# Altium footprint library Other Components.PcbLib: 33 footprints (part 1 of 3)
Each footprint in its own frame and in the unit in brackets; x right, y up, seen from the top. Pads: shape width x height; smd on the part's side, far side on the other; paste and mask are expansions set on the pad; w line width, h text height; cw(c..) or ccw(c..) is an arc to the next point about the centre after c.
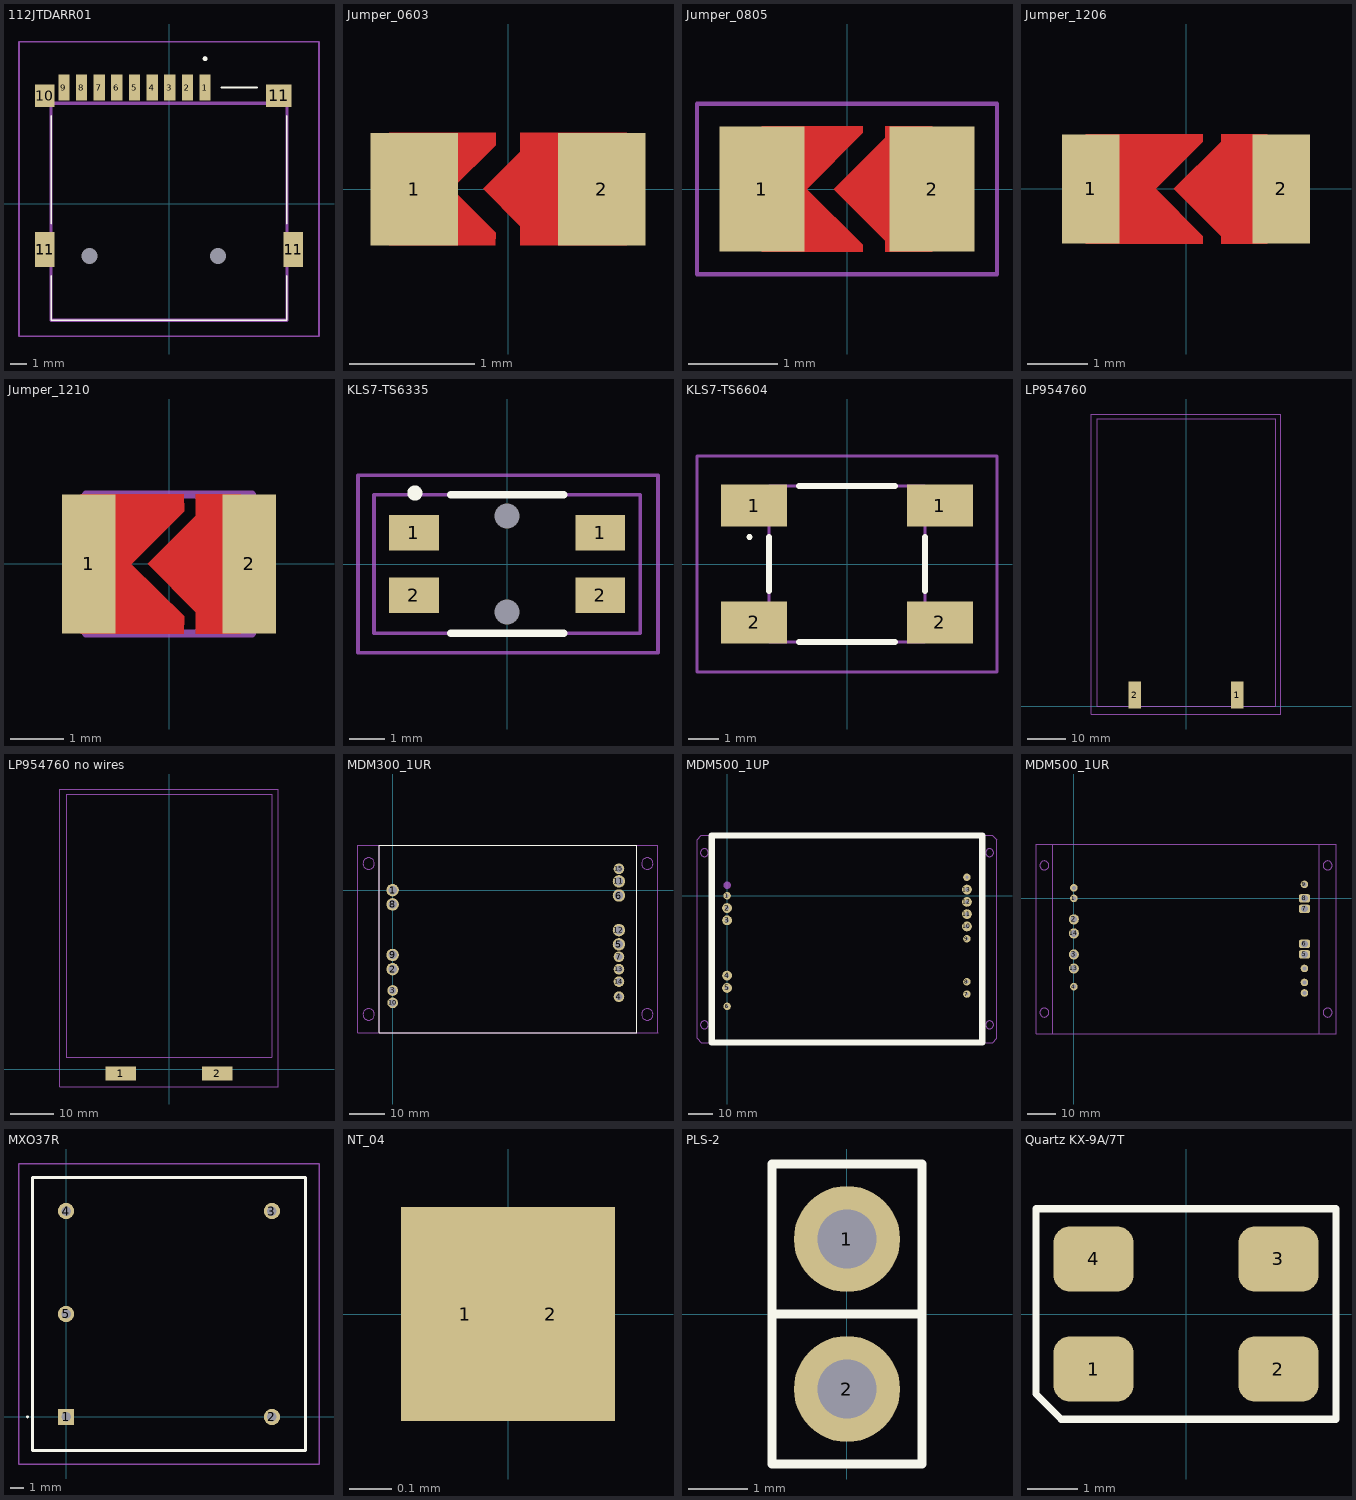
[diagram p0: the footprints below, top view; thin cyan lines are the x and y axes]

## 112JTDARR01 [mm]
pads (15):
  rect 0.7x1.6 smd: 1(2.25,7.25) 2(1.15,7.25) 3(0.05,7.25) 4(-1.05,7.25) 5(-2.15,7.25) 6(-3.25,7.25) 7(-4.35,7.25) 8(-5.45,7.25) 9(-6.55,7.25)
  rect 1.2x1.4 smd: 10(-7.75,6.75)
  rect 1.2x2.2 smd: 11(-7.75,-2.85) 11(7.75,-2.85)
  rect 1.6x1.4 smd: 11(6.85,6.75)
  round 0.5 hole 1 unplated: MH1(3.05,-3.25) MH2(-4.95,-3.25)
Top Overlay:
  lines w0.1: -7.35,-7.25 7.35,-7.25 ; -7.35,-7.25 7.35,-7.25 ; -7.35,-7.25 -7.35,-4.5 -7.35,-7.25 ; 7.35,-7.25 7.35,-4.5 7.35,-7.25 ; -7.35,-1.25 -7.35,5.5 -7.35,-1.25 ; 3.25,7.25 5.5,7.25 3.25,7.25 ; 7.35,-1.25 7.35,5.5 7.35,-1.25
  lines w0.2: 2.25,9 cw(c2.25,9.05) 2.25,9.1 ; 2.25,9 ccw(c2.25,9.05) 2.25,9.1 ; 2.25,9 cw(c2.25,9.05) 2.25,9.1
Top 3D Body:
  lines w0.2: -7.35,-7.25 7.35,-7.25 7.35,6.275 -7.35,6.275 -7.35,-7.25
Top Courtyard:
  lines w0.1: -9.35,-8.25 9.35,-8.25 9.35,10.1 -9.35,10.1 -9.35,-8.25
3D body "112J-TDAR-R01.stp": height 2.1, standoff -1.7, extent -8.23,-7.25 8.23,7.98

## Jumper_0603 [mm]
height 0.5
pads (2):
  rect 0.7x0.9 smd mask+0: 1(-0.75,0) 2(0.75,0)
Top Layer:
  region: 0.95,-0.45 0.1,-0.45 0.1,-0.3 -0.2,0 0.1,0.3 0.1,0.45 0.95,0.45
  region: -0.099,0.45 -0.099,0.351 -0.45,0 -0.1,-0.35 -0.1,-0.45 -0.95,-0.45 -0.95,0.45
Top Solder:
  region: 0.8,0.45 0.8,-0.45 -0.95,-0.45 -0.95,0.45
3D body "SMDR_0603.STEP": height 0.5, standoff 0, extent -0.8,-0.4 0.8,0.4

## Jumper_0805 [mm]
pads (2):
  rect 0.95x1.4 smd mask+0: 1(-0.95,0) 2(0.95,0)
Top Layer:
  region: 0.176,0.7 0.176,0.626 -0.45,0 0.175,-0.625 0.175,-0.7 -0.95,-0.7 -0.95,0.7
  region: 0.95,-0.7 0.5,-0.7 0.426,-0.7 0.426,-0.575 -0.149,0 0.426,0.575 0.426,0.7 0.5,0.7 0.95,0.7
Top Solder:
  region: 0.95,0.7 0.95,-0.7 -0.95,-0.7 -0.95,0.7
Top Courtyard:
  lines w0.05: -1.675,-0.95 1.675,-0.95 1.675,0.95 -1.675,0.95 -1.675,-0.95
3D body "RC0805FR-076K2L.stp": height 0.6, standoff 0, extent -1,-0.625 1,0.625

## Jumper_1206 [mm]
height 0.6
pads (2):
  rect 0.95x1.8 smd mask+0: 1(-1.575,0) 2(1.575,0)
Top Layer:
  region: -0.938,0.9 0.28,0.9 0.28,0.78 -0.5,0 0.28,-0.78 0.28,-0.9 -0.938,-0.9 -1.65,-0.9 -1.65,0.9
  region: 1.337,-0.9 0.7,-0.9 0.58,-0.9 0.58,-0.78 -0.2,0 0.58,0.78 0.58,0.9 0.7,0.9 1.337,0.9
Top Solder:
  region: 1.68,0.9 1.68,-0.9 -1.6,-0.9 -1.6,0.9
3D body "SMDR_1206.STEP": height 0.56, standoff 0, extent -1.6,-0.8 1.6,0.8

## Jumper_1210 [mm]
height 0.6
pads (2):
  rect 1x2.6 smd mask+0: 1(-1.5,0) 2(1.5,0)
Top Layer:
  region: -1.65,1.3 0.28,1.3 0.28,0.98 -0.7,0 0.28,-0.98 0.28,-1.3 -1.65,-1.3
  region: 1.337,-1.3 0.5,-1.3 0.5,-0.9 -0.4,0 0.5,0.9 0.5,1.3 1.337,1.3
Top Solder:
  region: 1.68,1.3 1.68,-1.3 -1.6,-1.3 -1.6,1.3
Top Designator:
  text ".Designator" at -7.618,-0.508 h1.52
Top 3D Body:
  lines w0.15: -1.05,-1.3 -1.05,1.3 ; 1.05,-1.3 1.05,1.3 ; -1.55,-1.3 1.55,-1.3 1.55,1.3 -1.55,1.3 -1.55,-1.3
3D body "SMDR_1210.STEP": height 0.56, standoff 0, extent -1.6,-1.25 1.6,1.25

## KLS7-TS6335 [mm]
pads (6):
  round 0 hole 0.7: 0(0,-1.35) 0(0,1.35)
  rect 1.4x1 smd: 1(-2.625,0.875) 1(2.625,0.875) 2(-2.625,-0.875) 2(2.625,-0.875)
Top Overlay:
  lines w0.2: -1.6,-1.95 1.6,-1.95 ; -1.6,1.95 1.6,1.95
  lines w0.254: -2.515,2.012 ccw(c-2.6,2) -2.515,2
Top 3D Body:
  lines w0.1: -3.75,-1.95 3.75,-1.95 3.75,1.95 -3.75,1.95 -3.75,-1.95
Top Courtyard:
  lines w0.1: -4.2,-2.5 4.25,-2.5 4.25,2.5 -4.2,2.5 -4.2,-2.5
3D body: height 0.1, standoff 0, extent -3.125,0.6 0,1.15
3D body: height 1.55, standoff 0.1, extent -2.375,-1.75 2.375,1.75
3D body: height 0.1, standoff 0, extent 0,0.6 3.125,1.15
3D body: height 0.1, standoff 0, extent -3.125,-1.15 0,-0.6
3D body: height 0.1, standoff 0, extent 0,-1.15 3.125,-0.6
3D body: height 1.55, standoff 0.25, extent -1.35,-2.75 1.35,0

## KLS7-TS6604 [mm]
pads (4):
  rect 2.2x1.4 smd: 1(-3.1,1.95) 1(3.1,1.95) 2(-3.1,-1.95) 2(3.1,-1.95)
Top Overlay:
  lines w0.1: -3.3,0.9 cw(c-3.25,0.9) -3.2,0.9 cw(c-3.25,0.9) -3.3,0.9
  lines w0.2: -2.6,-0.9 -2.6,0.9 ; -1.6,-2.6 1.6,-2.6 ; -1.6,2.6 1.6,2.6 ; 2.6,-0.9 2.6,0.9
Top 3D Body:
  lines w0.1: -2.6,-2.6 -2.6,2.6 2.6,2.6 2.6,-2.6 -2.6,-2.6
Top Courtyard:
  lines w0.1: -5,-3.6 -5,3.6 5,3.6 5,-3.6 -5,-3.6
3D body "KLS7-TS6611.stp": height 1.6, standoff 0, extent -3.89,-2.6 3.89,2.6
3D body: height 5, standoff 0, extent -1.7,-1.696 1.7,1.697
3D body: height 3.5, standoff 0.01, extent -3,-3 3,3

## LP954760 [mm]
pads (2):
  rect 3.2x7 smd: 1(13.5,3) 2(-13.5,3)
Top 3D Body:
  lines w0.2: -23.5,0 -23.5,75.8 23.5,75.8 23.5,0 -23.5,0
Top Courtyard:
  lines w0.1: -25,-2 -25,77 25,77 25,-2 -25,-2
3D body "LP954760.STEP": height 9.8, standoff 0, extent -23.5,0 23.5,75.8

## LP954760 no wires [mm]
pads (2):
  rect 7x3.2 smd: 1(-11,-1) 2(11,-1)
Top 3D Body:
  lines w0.2: -23.5,2.718 -23.5,62.8 23.5,62.8 23.5,2.718 -23.5,2.718
Top Courtyard:
  lines w0.1: -25,-4 -25,64 25,64 25,-4 -25,-4
3D body "LP954760_nowires.STEP": height 9.6, standoff 0.1, extent -23.5,2.8 23.5,62.8

## MDM300_1UR [mm] "new.03.02.22"
pads (15):
  round 3.5 hole 2.4 mask+0: 1(0,0) 2(0,-22.25) 5(63.75,-15.25) 6(63.75,-1.5) 8(0,-4) 9(0,-18.25) 11(63.75,2.5) 12(63.75,-11.25)
  round 3 hole 1.9 mask+0: 3(0,-28.25) 4(63.75,-30) 7(63.75,-18.75) 10(0,-31.75) 13(63.75,-22.25) 14(63.75,-25.75) 15(63.75,6)
Top Overlay:
  lines w0.3: -3.749,-40.102 -3.749,12.59 68.747,12.59 68.747,-40.102 -3.749,-40.102
Top 3D Body:
  circle w0.15: c63.75,-15.25 r1
  circle w0.1: c0,-28.25 r0.75
  circle w0.1: c0,-31.75 r0.75
  circle w0.15: c0,-18.25 r1
  circle w0.1: c63.75,-22.25 r0.75
  circle w0.1: c63.75,-18.75 r0.75
  circle w0.1: c63.75,-30 r0.75
  circle w0.15: c0,0 r1
  circle w0.15: c63.75,-11.25 r1
  circle w0.1: c63.75,6 r0.75
  circle w0.15: c63.75,-1.5 r1
  circle w0.15: c63.75,2.5 r1
  circle w0.15: c0,-22.25 r1
  circle w0.15: c0,-4 r1
  circle w0.1: c63.75,-25.75 r0.75
  circle w0.1: c-6.75,7.5 r1.6
  circle w0.1: c-6.75,-35 r1.6
  circle w0.1: c71.75,7.5 r1.6
  circle w0.1: c71.75,-35 r1.6
  lines w0.15: -3.75,-40.1 -9.75,-40.1 -9.75,12.6 -3.75,12.6 ; -3.75,-40.1 -3.75,12.6 ; -3.75,-40.1 68.75,-40.1 ; -3.75,12.6 68.75,12.6 ; 68.75,-40.1 68.75,12.6 ; 68.75,-40.1 74.75,-40.1 74.75,12.6 68.75,12.6
  text "1" at 3.65,-0.175 h2
  text "8" at 3.75,-4.325 h2
  text "10" at 3.6,-32.35 h2
  text "3" at 3.525,-28.825 h2
  text "9" at 3.65,-18.25 h2
  text "2" at 3.6,-22.725 h2
  text "6" at 58.875,-2.125 h2
  text "11" at 58.875,2.125 h2
  text "15" at 59.125,5.625 h2
  text "5" at 59.375,-15.625 h2
  text "14" at 59.375,-26.375 h2
  text "4" at 59.625,-30.625 h2
  text "13" at 59.375,-22.875 h2
  text "7" at 59.625,-19.125 h2
  text "12" at 59.625,-11.875 h2
3D body "MDM300-Ð.stp": height 13, standoff -5.49, extent -9.75,-40 74.75,12.5

## MDM500_1UP [mm]
pads (14):
  round 3 hole 1.3: 1(0,0) 6(0,-45) 7(97.5,-40) 8(97.5,-35) 9(97.5,-17.5) 14(97.5,7.5)
  round 4 hole 1.7: 2(0,-5) 3(0,-10) 4(0,-32.5) 5(0,-37.5) 10(97.5,-12.5) 11(97.5,-7.5) 12(97.5,-2.5) 13(97.5,2.5)
Top Overlay:
  lines w2.5: -6.25,-59.7 103.75,-59.7 103.75,24.5 -6.25,24.5 -6.25,-59.7
Top 3D Body:
  circle w0.1: c-9.25,-52.5 r1.6
  circle w0.1: c-9.25,17.5 r1.6
  circle w0.1: c106.75,17.5 r1.6
  circle w0.1: c106.75,-52.5 r1.6
  circle w2: c0,4.25 r0.5
  lines w0.15: -12.2,22.8 -10.5,24.5 ; -6.25,-59.7 -6.25,24.5 ; 103.75,-59.7 103.75,24.5 ; 108,24.5 -10.5,24.5 ; 108.05,24.45 109.75,22.75 109.75,-58 108.05,-59.7 -10.55,-59.7 -12.25,-58 -12.25,22.75 -10.5,24.5
3D body "d1.35.stp": height 10, standoff -5, extent 96.625,1.631 98.375,3.369
3D body "d1.35.stp": height 10, standoff -5, extent 96.625,-3.369 98.375,-1.631
3D body "d1.35.stp": height 10, standoff -5, extent 96.625,-8.369 98.375,-6.631
3D body "d1.35.stp": height 10, standoff -5, extent 96.625,-13.369 98.375,-11.631
3D body "d1.0.stp": height 10, standoff -5, extent 96.84,-40.655 98.16,-39.345
3D body "d1.0.stp": height 10, standoff -5, extent 96.84,-35.655 98.16,-34.345
3D body "d1.0.stp": height 10, standoff -5, extent 96.84,-18.155 98.16,-16.845
3D body "d1.0.stp": height 10, standoff -5, extent 96.84,6.845 98.16,8.155
3D body: height 5, standoff 2, extent -5.1,-58.696 103.01,23.2
3D body "Case_7-U.stp": height 13.85, standoff 1, extent -12.25,-59.5 109.75,24.5
3D body "d1.35.stp": height 10, standoff -5, extent -0.875,-33.369 0.875,-31.631
3D body "d1.35.stp": height 10, standoff -5, extent -0.875,-38.369 0.875,-36.631
3D body "d1.35.stp": height 10, standoff -5, extent -0.875,-10.869 0.875,-9.131
3D body "d1.35.stp": height 10, standoff -5, extent -0.875,-5.869 0.875,-4.131
3D body "d1.0.stp": height 10, standoff -5, extent -0.66,-0.655 0.66,0.655
3D body "d1.0.stp": height 10, standoff -5, extent -0.66,-45.655 0.66,-44.345
3D body: height 14, standoff 8, extent -3,-3 3,3

## MDM500_1UR [mm] "new.03.02.22"
pads (15):
  round 2.7 hole 1.4: 1(0,0) 4(0,-31.5) 9(82.25,5) 10(82.25,-25) 11(82.25,-30) 12(82.25,-33.75) 15(0,3.75)
  round 3.6 hole 2.4: 2(0,-7.5) 3(0,-20) 13(0,-25) 14(0,-12.5)
  rrect50% 4x3 hole 2.4: 5(82.25,-20) 6(82.25,-16.25) 7(82.25,-3.75) 8(82.25,0)
Top 3D Body:
  circle w0.1: c-10.5,11.75 r1.6
  circle w0.1: c-10.5,-40.75 r1.6
  circle w0.1: c90.5,-40.75 r1.6
  circle w0.1: c90.5,11.75 r1.6
  lines w0.15: -7.5,-48.35 -7.5,19.35 ; 87.5,-48.35 87.5,19.35 ; -7.5,19.35 93.5,19.35 93.5,-48.35 -13.5,-48.35 -13.5,19.35 -7.5,19.35
  text "9" at 78,4.75 h2
  text "8" at 78,-0.25 h2
  text "7" at 78,-4.25 h2
  text "6" at 78.5,-16.75 h2
  text "5" at 78.5,-20.25 h2
  text "10" at 78.5,-25.75 h2
  text "11" at 78.5,-30.25 h2
  text "12" at 78.5,-34.25 h2
  text "15" at 2.75,3.5 h2
  text "1" at 3,-0.75 h2
  text "2" at 3,-8.25 h2
  text "14" at 3,-13.25 h2
  text "3" at 2.75,-20.25 h2
  text "13" at 2.75,-25.25 h2
  text "4" at 2.75,-31.75 h2
3D body "MDM500-Ð.stp": height 13, standoff -5.5, extent -13.5,-48.25 93.5,19.25

## MXO37R [mm]
pads (5):
  rect 1.2x1.2 hole 0.7: 1(0,0)
  round 1.2 hole 0.7: 2(15.24,0) 3(15.24,15.24) 4(0,15.24) 5(0,7.62)
Top Overlay:
  lines w0.1: -2.9,0 cw(c-2.85,0) -2.8,0 cw(c-2.85,0) -2.9,0
  lines w0.2: -2.48,-2.48 17.72,-2.48 17.72,17.72 -2.48,17.72 -2.48,-2.48
Top 3D Body:
  lines w0.1: -2.48,-2.48 17.72,-2.48 17.72,17.72 -2.48,17.72 -2.48,-2.48
Top Courtyard:
  lines w0.1: -3.48,-3.48 18.72,-3.48 18.72,18.72 -3.48,18.72 -3.48,-3.48
3D body "MXO37_R.stp": height 12.6, standoff -5, extent -2.48,-2.48 17.72,17.72

## NT_04 [mm]
height 0.5
pads (2):
  rect 0.3x0.5 smd mask-5: 1(-0.1,0) 2(0.1,0)

## PLS-2 [mm]
height 5.5
pads (2):
  round 1.8 hole 1 mask+0.05: 1(0,1.27) 2(0,-1.27)
Top Overlay:
  lines w0.15: -1.27,0 -1.27,-2.54 1.27,-2.54 1.27,0 ; -1.27,0 1.27,0 ; -1.27,0 -1.27,2.54 1.27,2.54 1.27,0
3D body "User Library-PLS-1.STEP": height 8.49, standoff -2.95, extent -1.278,-2.542 1.262,-0.002
3D body "User Library-PLS-1.STEP": height 8.49, standoff -2.95, extent -1.278,-0.002 1.262,2.538

## Quartz KX-9A/7T [mm]
pads (4):
  rrect50% 1.6x1.3 smd mask+0: 1(-1.85,-1.1) 2(1.85,-1.1) 3(1.85,1.1) 4(-1.85,1.1)
Top Overlay:
  lines w0.15: -3,-1.6 -2.5,-2.1 3,-2.1 3,2.1 -3,2.1 -3,-1.6
Top Designator:
  text ".Designator" at -7.618,-0.508 h1.52
3D body "KX-9A.STEP": height 1.01, standoff 0, extent -2.5,-1.6 2.5,1.6